# EAGLE library part 7-SEG-4DIG-12PIN (library MTS-OTR_Custom)
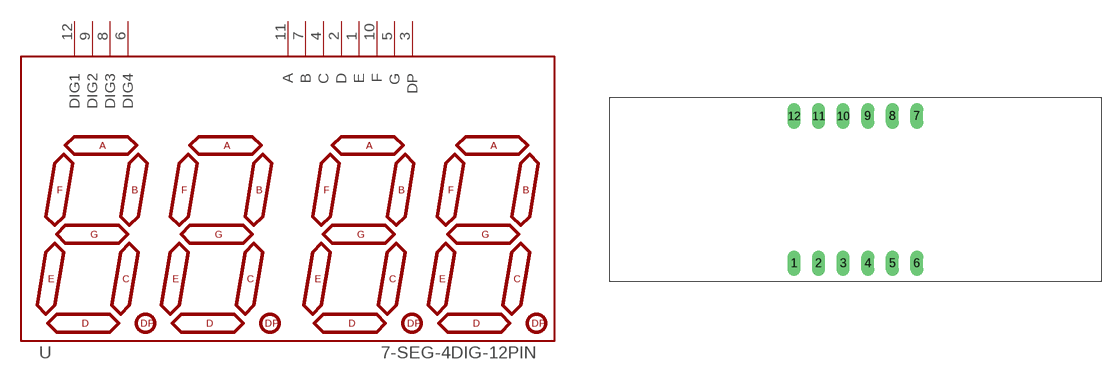
[diagram p30: symbol with the pads of 7-SEG-4DIG-12PIN; footprint 7-SEG-4DIG-12PIN]

Designator prefix -

## 7-SEG-4DIG-12PIN  [7-SEG-4DIG-12PIN]
1  E
2  D
3  DP
4  C
5  G
6  DIG4
7  B
8  DIG3
9  DIG2
10  F
11  A
12  DIG1

## Footprint 7-SEG-4DIG-12PIN (pad centres in mm)
drill 0.813 long: 1 -6.35,-7.62; 2 -3.81,-7.62; 3 -1.27,-7.62; 4 1.27,-7.62; 5 3.81,-7.62; 6 6.35,-7.62; 7 6.35,7.62; 8 3.81,7.62; 9 1.27,7.62; 10 -1.27,7.62; 11 -3.81,7.62; 12 -6.35,7.62